# Altium schematic symbol library WR-WTB_1.25mm.SchLib: 46 symbols
Pins are listed as number, name and electrical type; pins without a type are passive.

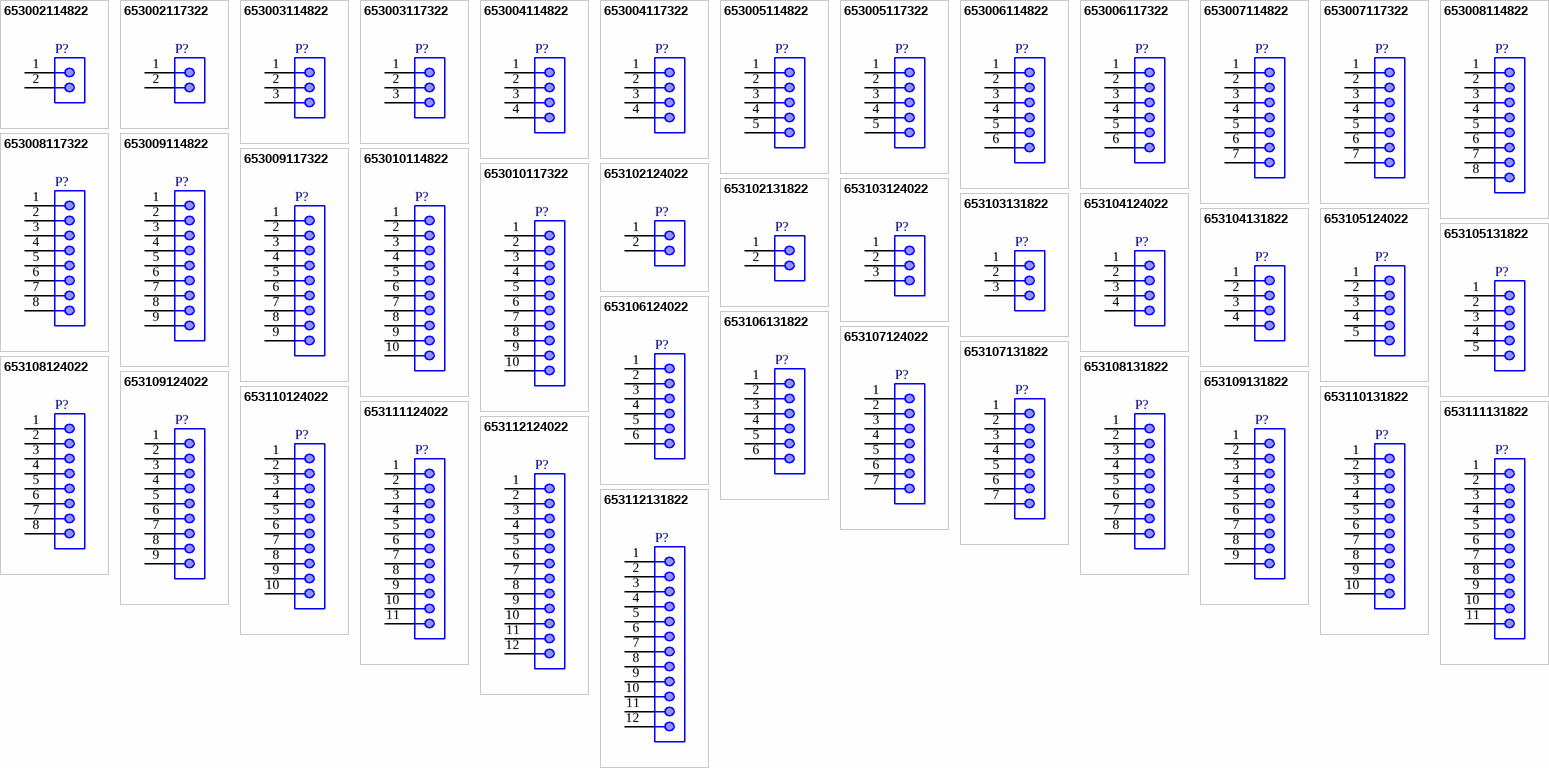
[diagram p0: symbols 653002114822 to 653112131822]

## 653002114822
designator P?
WR-WTB THT Male Vertical Shrouded Header, pitch 1.25mm, 2p; Part Number: 653002114822; Pin Number: 2; Contact Resistance: 20mOhm; Rated Current: 1A; Withstanding Voltage: 250VAC; Working Voltage: 125VAC; ComponentLink1Description: Manufacturer; ComponentLink1URL: http://www.we-online.de; ComponentLink2Description: Datasheet; ComponentLink2URL: https://www.we-online.com/catalog/datasheet/653002114822.pdf; Pitch: 1.25mm; Published Date: January 2020; Publisher: Wurth Elektronik; Mounting Technology: THT; Packaging: Bag; Operating Temperature: -40 to +85degC; Gender: Male; Type: Vertical
footprint 653002114822
pins: 1, 2

## 653002117322
designator P?
WR-WTB THT Male Horizontal Shrouded Header, pitch 1.25mm, 2p; Part Number: 653002117322; Pin Number: 2; Contact Resistance: 20mOhm; Rated Current: 1A; Withstanding Voltage: 250VAC; Working Voltage: 125VAC; ComponentLink1Description: Manufacturer; ComponentLink1URL: http://www.we-online.de; ComponentLink2Description: Datasheet; ComponentLink2URL: https://www.we-online.com/catalog/datasheet/653002117322.pdf; Pitch: 1.25mm; Published Date: January 2020; Publisher: Wurth Elektronik; Mounting Technology: THT; Packaging: Tube; Operating Temperature: -40 to +85degC; Gender: Male; Type: Horizontal
footprint 653002117322
pins: 1, 2

## 653003114822
designator P?
WR-WTB THT Male Vertical Shrouded Header, pitch 1.25mm, 3p; Part Number: 653003114822; Pin Number: 3; Contact Resistance: 20mOhm; Rated Current: 1A; Withstanding Voltage: 250VAC; Working Voltage: 125VAC; ComponentLink1Description: Manufacturer; ComponentLink1URL: http://www.we-online.de; ComponentLink2Description: Datasheet; ComponentLink2URL: https://www.we-online.com/catalog/datasheet/653003114822.pdf; Pitch: 1.25mm; Published Date: January 2020; Publisher: Wurth Elektronik; Mounting Technology: THT; Packaging: Bag; Operating Temperature: -40 to +85degC; Gender: Male; Type: Vertical
footprint 653003114822
pins: 1, 2, 3

## 653003117322
designator P?
WR-WTB THT Male Horizontal Shrouded Header, pitch 1.25mm, 3p; Part Number: 653003117322; Pin Number: 3; Contact Resistance: 20mOhm; Rated Current: 1A; Withstanding Voltage: 250VAC; Working Voltage: 125VAC; ComponentLink1Description: Manufacturer; ComponentLink1URL: http://www.we-online.de; ComponentLink2Description: Datasheet; ComponentLink2URL: https://www.we-online.com/catalog/datasheet/653003117322.pdf; Pitch: 1.25mm; Published Date: January 2020; Publisher: Wurth Elektronik; Mounting Technology: THT; Packaging: Tube; Operating Temperature: -40 to +85degC; Gender: Male; Type: Horizontal
footprint 653003117322
pins: 1, 2, 3

## 653004114822
designator P?
WR-WTB THT Male Vertical Shrouded Header, pitch 1.25mm, 4p; Part Number: 653004114822; Pin Number: 4; Contact Resistance: 20mOhm; Rated Current: 1A; Withstanding Voltage: 250VAC; Working Voltage: 125VAC; ComponentLink1Description: Manufacturer; ComponentLink1URL: http://www.we-online.de; ComponentLink2Description: Datasheet; ComponentLink2URL: https://www.we-online.com/catalog/datasheet/653004114822.pdf; Pitch: 1.25mm; Published Date: January 2020; Publisher: Wurth Elektronik; Mounting Technology: THT; Packaging: Tube; Operating Temperature: -40 to +85degC; Gender: Male; Type: Vertical
footprint 653004114822
pins: 1, 2, 3, 4

## 653004117322
designator P?
WR-WTB THT Male Horizontal Shrouded Header, pitch 1.25mm, 4p; Part Number: 653004117322; Pin Number: 4; Contact Resistance: 20mOhm; Rated Current: 1A; Withstanding Voltage: 250VAC; Working Voltage: 125VAC; ComponentLink1Description: Manufacturer; ComponentLink1URL: http://www.we-online.de; ComponentLink2Description: Datasheet; ComponentLink2URL: https://www.we-online.com/catalog/datasheet/653004117322.pdf; Pitch: 1.25mm; Published Date: January 2020; Publisher: Wurth Elektronik; Mounting Technology: THT; Packaging: Tube; Operating Temperature: -40 to +85degC; Gender: Male; Type: Horizontal
footprint 653004117322
pins: 1, 2, 3, 4

## 653005114822
designator P?
WR-WTB THT Male Vertical Shrouded Header, pitch 1.25mm, 5p; Part Number: 653005114822; Pin Number: 5; Contact Resistance: 20mOhm; Rated Current: 1A; Withstanding Voltage: 250VAC; Working Voltage: 125VAC; ComponentLink1Description: Manufacturer; ComponentLink1URL: http://www.we-online.de; ComponentLink2Description: Datasheet; ComponentLink2URL: https://www.we-online.com/catalog/datasheet/653005114822.pdf; Pitch: 1.25mm; Published Date: January 2020; Publisher: Wurth Elektronik; Mounting Technology: THT; Packaging: Tube; Operating Temperature: -40 to +85degC; Gender: Male; Type: Vertical
footprint 653005114822
pins: 1, 2, 3, 4, 5

## 653005117322
designator P?
WR-WTB THT Male Horizontal Shrouded Header, pitch 1.25mm, 5p; Part Number: 653005117322; Pin Number: 5; Contact Resistance: 20mOhm; Rated Current: 1A; Withstanding Voltage: 250VAC; Working Voltage: 125VAC; ComponentLink1Description: Manufacturer; ComponentLink1URL: http://www.we-online.de; ComponentLink2Description: Datasheet; ComponentLink2URL: https://www.we-online.com/catalog/datasheet/653005117322.pdf; Pitch: 1.25mm; Published Date: January 2020; Publisher: Wurth Elektronik; Mounting Technology: THT; Packaging: Tube; Operating Temperature: -40 to +85degC; Gender: Male; Type: Horizontal
footprint 653005117322
pins: 1, 2, 3, 4, 5

## 653006114822
designator P?
WR-WTB THT Male Vertical Shrouded Header, pitch 1.25mm, 6p; Part Number: 653006114822; Pin Number: 6; Contact Resistance: 20mOhm; Rated Current: 1A; Withstanding Voltage: 250VAC; Working Voltage: 125VAC; ComponentLink1Description: Manufacturer; ComponentLink1URL: http://www.we-online.de; ComponentLink2Description: Datasheet; ComponentLink2URL: https://www.we-online.com/catalog/datasheet/653006114822.pdf; Pitch: 1.25mm; Published Date: January 2020; Publisher: Wurth Elektronik; Mounting Technology: THT; Packaging: Tube; Operating Temperature: -40 to +85degC; Gender: Male; Type: Vertical
footprint 653006114822
pins: 1, 2, 3, 4, 5, 6

## 653006117322
designator P?
WR-WTB THT Male Horizontal Shrouded Header, pitch 1.25mm, 6p; Part Number: 653006117322; Pin Number: 6; Contact Resistance: 20mOhm; Rated Current: 1A; Withstanding Voltage: 250VAC; Working Voltage: 125VAC; ComponentLink1Description: Manufacturer; ComponentLink1URL: http://www.we-online.de; ComponentLink2Description: Datasheet; ComponentLink2URL: https://www.we-online.com/catalog/datasheet/653006117322.pdf; Pitch: 1.25mm; Published Date: January 2020; Publisher: Wurth Elektronik; Mounting Technology: THT; Packaging: Tube; Operating Temperature: -40 to +85degC; Gender: Male; Type: Horizontal
footprint 653006117322
pins: 1, 2, 3, 4, 5, 6

## 653007114822
designator P?
WR-WTB THT Male Vertical Shrouded Header, pitch 1.25mm, 7p; Part Number: 653007114822; Pin Number: 7; Contact Resistance: 20mOhm; Rated Current: 1A; Withstanding Voltage: 250VAC; Working Voltage: 125VAC; ComponentLink1Description: Manufacturer; ComponentLink1URL: http://www.we-online.de; ComponentLink2Description: Datasheet; ComponentLink2URL: https://www.we-online.com/catalog/datasheet/653007114822.pdf; Pitch: 1.25mm; Published Date: January 2020; Publisher: Wurth Elektronik; Mounting Technology: THT; Packaging: Tube; Operating Temperature: -40 to +85degC; Gender: Male; Type: Vertical
footprint 653007114822
pins: 1, 2, 3, 4, 5, 6, 7

## 653007117322
designator P?
WR-WTB THT Male Horizontal Shrouded Header, pitch 1.25mm, 7p; Part Number: 653007117322; Pin Number: 7; Contact Resistance: 20mOhm; Rated Current: 1A; Withstanding Voltage: 250VAC; Working Voltage: 125VAC; ComponentLink1Description: Manufacturer; ComponentLink1URL: http://www.we-online.de; ComponentLink2Description: Datasheet; ComponentLink2URL: https://www.we-online.com/catalog/datasheet/653007117322.pdf; Pitch: 1.25mm; Published Date: January 2020; Publisher: Wurth Elektronik; Mounting Technology: THT; Packaging: Tube; Operating Temperature: -40 to +85degC; Gender: Male; Type: Horizontal
footprint 653007117322
pins: 1, 2, 3, 4, 5, 6, 7

## 653008114822
designator P?
WR-WTB THT Male Vertical Shrouded Header, pitch 1.25mm, 8p; Part Number: 653008114822; Pin Number: 8; Contact Resistance: 20mOhm; Rated Current: 1A; Withstanding Voltage: 250VAC; Working Voltage: 125VAC; ComponentLink1Description: Manufacturer; ComponentLink1URL: http://www.we-online.de; ComponentLink2Description: Datasheet; ComponentLink2URL: https://www.we-online.com/catalog/datasheet/653008114822.pdf; Pitch: 1.25mm; Published Date: January 2020; Publisher: Wurth Elektronik; Mounting Technology: THT; Packaging: Tube; Operating Temperature: -40 to +85degC; Gender: Male; Type: Vertical
footprint 653008114822
pins: 1, 2, 3, 4, 5, 6, 7, 8

## 653008117322
designator P?
WR-WTB THT Male Horizontal Shrouded Header, pitch 1.25mm, 8p; Part Number: 653008117322; Pin Number: 8; Contact Resistance: 20mOhm; Rated Current: 1A; Withstanding Voltage: 250VAC; Working Voltage: 125VAC; ComponentLink1Description: Manufacturer; ComponentLink1URL: http://www.we-online.de; ComponentLink2Description: Datasheet; ComponentLink2URL: https://www.we-online.com/catalog/datasheet/653008117322.pdf; Pitch: 1.25mm; Published Date: January 2020; Publisher: Wurth Elektronik; Mounting Technology: THT; Packaging: Tube; Operating Temperature: -40 to +85degC; Gender: Male; Type: Horizontal
footprint 653008117322
pins: 1, 2, 3, 4, 5, 6, 7, 8

## 653009114822
designator P?
WR-WTB THT Male Vertical Shrouded Header, pitch 1.25mm, 9p; Part Number: 653009114822; Pin Number: 9; Contact Resistance: 20mOhm; Rated Current: 1A; Withstanding Voltage: 250VAC; Working Voltage: 125VAC; ComponentLink1Description: Manufacturer; ComponentLink1URL: http://www.we-online.de; ComponentLink2Description: Datasheet; ComponentLink2URL: https://www.we-online.com/catalog/datasheet/653009114822.pdf; Pitch: 1.25mm; Published Date: January 2020; Publisher: Wurth Elektronik; Mounting Technology: THT; Packaging: Tube; Operating Temperature: -40 to +85degC; Gender: Male; Type: Vertical
footprint 653009114822
pins: 1, 2, 3, 4, 5, 6, 7, 8, 9

## 653009117322
designator P?
WR-WTB THT Male Horizontal Shrouded Header, pitch 1.25mm, 9p; Part Number: 653009117322; Pin Number: 9; Contact Resistance: 20mOhm; Rated Current: 1A; Withstanding Voltage: 250VAC; Working Voltage: 125VAC; ComponentLink1Description: Manufacturer; ComponentLink1URL: http://www.we-online.de; ComponentLink2Description: Datasheet; ComponentLink2URL: https://www.we-online.com/catalog/datasheet/653009117322.pdf; Pitch: 1.25mm; Published Date: January 2020; Publisher: Wurth Elektronik; Mounting Technology: THT; Packaging: Tube; Operating Temperature: -40 to +85degC; Gender: Male; Type: Horizontal
footprint 653009117322
pins: 1, 2, 3, 4, 5, 6, 7, 8, 9

## 653010114822
designator P?
WR-WTB THT Male Vertical Shrouded Header, pitch 1.25mm, 10p; Part Number: 653010114822; Pin Number: 10; Contact Resistance: 20mOhm; Rated Current: 1A; Withstanding Voltage: 250VAC; Working Voltage: 125VAC; ComponentLink1Description: Manufacturer; ComponentLink1URL: http://www.we-online.de; ComponentLink2Description: Datasheet; ComponentLink2URL: https://www.we-online.com/catalog/datasheet/653010114822.pdf; Pitch: 1.25mm; Published Date: January 2020; Publisher: Wurth Elektronik; Mounting Technology: THT; Packaging: Tube; Operating Temperature: -40 to +85degC; Gender: Male; Type: Vertical
footprint 653010114822
pins: 1, 2, 3, 4, 5, 6, 7, 8, 9, 10

## 653010117322
designator P?
WR-WTB THT Male Horizontal Shrouded Header, pitch 1.25mm, 10p; Part Number: 653010117322; Pin Number: 10; Contact Resistance: 20mOhm; Rated Current: 1A; Withstanding Voltage: 250VAC; Working Voltage: 125VAC; ComponentLink1Description: Manufacturer; ComponentLink1URL: http://www.we-online.de; ComponentLink2Description: Datasheet; ComponentLink2URL: https://www.we-online.com/catalog/datasheet/653010117322.pdf; Pitch: 1.25mm; Published Date: January 2020; Publisher: Wurth Elektronik; Mounting Technology: THT; Packaging: Tube; Operating Temperature: -40 to +85degC; Gender: Male; Type: Horizontal
footprint 653010117322
pins: 1, 2, 3, 4, 5, 6, 7, 8, 9, 10

## 653102124022
designator P?
WR-WTB SMT Male Vertical Shrouded Header, pitch 1.25mm, 2p; Part Number: 653102124022; Pin Number: 2; Contact Resistance: 20mOhm; Rated Current: 1A; Withstanding Voltage: 250VAC; Working Voltage: 125VAC; ComponentLink1Description: Manufacturer; ComponentLink1URL: http://www.we-online.de; ComponentLink2Description: Datasheet; ComponentLink2URL: https://www.we-online.com/catalog/datasheet/653102124022.pdf; Pitch: 1.25mm; Published Date: January 2020; Publisher: Wurth Elektronik; Mounting Technology: SMT; Packaging: Tape and Reel; Operating Temperature: -40 to +85degC; Gender: Male; Type: Vertical
footprint 653102124022
pins: 1, 2

## 653102131822
designator P?
WR-WTB SMT Male Horizontal Shrouded Header, pitch 1.25mm, 2p; Part Number: 653102131822; Pin Number: 2; Contact Resistance: 20mOhm; Rated Current: 1A; Withstanding Voltage: 250VAC; Working Voltage: 125VAC; ComponentLink1Description: Manufacturer; ComponentLink1URL: http://www.we-online.de; ComponentLink2Description: Datasheet; ComponentLink2URL: https://www.we-online.com/catalog/datasheet/653102131822.pdf; Pitch: 1.25mm; Published Date: January 2020; Publisher: Wurth Elektronik; Mounting Technology: SMT; Packaging: Tape and Reel; Operating Temperature: -40 to +85degC; Gender: Male; Type: Horizontal
footprint 653102131822
pins: 1, 2

## 653103124022
designator P?
WR-WTB SMT Male Vertical Shrouded Header, pitch 1.25mm, 3p; Part Number: 653103124022; Pin Number: 3; Contact Resistance: 20mOhm; Rated Current: 1A; Withstanding Voltage: 250VAC; Working Voltage: 125VAC; ComponentLink1Description: Manufacturer; ComponentLink1URL: http://www.we-online.de; ComponentLink2Description: Datasheet; ComponentLink2URL: https://www.we-online.com/catalog/datasheet/653103124022.pdf; Pitch: 1.25mm; Published Date: January 2020; Publisher: Wurth Elektronik; Mounting Technology: SMT; Packaging: Tape and Reel; Operating Temperature: -40 to +85degC; Gender: Male; Type: Vertical
footprint 653103124022
pins: 1, 2, 3

## 653103131822
designator P?
WR-WTB SMT Male Horizontal Shrouded Header, pitch 1.25mm, 3p; Part Number: 653103131822; Pin Number: 3; Contact Resistance: 20mOhm; Rated Current: 1A; Withstanding Voltage: 250VAC; Working Voltage: 125VAC; ComponentLink1Description: Manufacturer; ComponentLink1URL: http://www.we-online.de; ComponentLink2Description: Datasheet; ComponentLink2URL: https://www.we-online.com/catalog/datasheet/653103131822.pdf; Pitch: 1.25mm; Published Date: January 2020; Publisher: Wurth Elektronik; Mounting Technology: SMT; Packaging: Tape and Reel; Operating Temperature: -40 to +85degC; Gender: Male; Type: Horizontal
footprint 653103131822
pins: 1, 2, 3

## 653104124022
designator P?
WR-WTB SMT Male Vertical Shrouded Header, pitch 1.25mm, 4p; Part Number: 653104124022; Pin Number: 4; Contact Resistance: 20mOhm; Rated Current: 1A; Withstanding Voltage: 250VAC; Working Voltage: 125VAC; ComponentLink1Description: Manufacturer; ComponentLink1URL: http://www.we-online.de; ComponentLink2Description: Datasheet; ComponentLink2URL: https://www.we-online.com/catalog/datasheet/653104124022.pdf; Pitch: 1.25mm; Published Date: January 2020; Publisher: Wurth Elektronik; Mounting Technology: SMT; Packaging: Tape and Reel; Operating Temperature: -40 to +85degC; Gender: Male; Type: Vertical
footprint 653104124022
pins: 1, 2, 3, 4

## 653104131822
designator P?
WR-WTB SMT Male Horizontal Shrouded Header, pitch 1.25mm, 4p; Part Number: 653104131822; Pin Number: 4; Contact Resistance: 20mOhm; Rated Current: 1A; Withstanding Voltage: 250VAC; Working Voltage: 125VAC; ComponentLink1Description: Manufacturer; ComponentLink1URL: http://www.we-online.de; ComponentLink2Description: Datasheet; ComponentLink2URL: https://www.we-online.com/catalog/datasheet/653104131822.pdf; Pitch: 1.25mm; Published Date: January 2020; Publisher: Wurth Elektronik; Mounting Technology: SMT; Packaging: Tape and Reel; Operating Temperature: -40 to +85degC; Gender: Male; Type: Horizontal
footprint 653104131822
pins: 1, 2, 3, 4

## 653105124022
designator P?
WR-WTB SMT Male Vertical Shrouded Header, pitch 1.25mm, 5p; Part Number: 653105124022; Pin Number: 5; Contact Resistance: 20mOhm; Rated Current: 1A; Withstanding Voltage: 250VAC; Working Voltage: 125VAC; ComponentLink1Description: Manufacturer; ComponentLink1URL: http://www.we-online.de; ComponentLink2Description: Datasheet; ComponentLink2URL: https://www.we-online.com/catalog/datasheet/653105124022.pdf; Pitch: 1.25mm; Published Date: January 2020; Publisher: Wurth Elektronik; Mounting Technology: SMT; Packaging: Tape and Reel; Operating Temperature: -40 to +85degC; Gender: Male; Type: Vertical
footprint 653105124022
pins: 1, 2, 3, 4, 5

## 653105131822
designator P?
WR-WTB SMT Male Horizontal Shrouded Header, pitch 1.25mm, 5p; Part Number: 653105131822; Pin Number: 5; Contact Resistance: 20mOhm; Rated Current: 1A; Withstanding Voltage: 250VAC; Working Voltage: 125VAC; ComponentLink1Description: Manufacturer; ComponentLink1URL: http://www.we-online.de; ComponentLink2Description: Datasheet; ComponentLink2URL: https://www.we-online.com/catalog/datasheet/653105131822.pdf; Pitch: 1.25mm; Published Date: January 2020; Publisher: Wurth Elektronik; Mounting Technology: SMT; Packaging: Tape and Reel; Operating Temperature: -40 to +85degC; Gender: Male; Type: Horizontal
footprint 653105131822
pins: 1, 2, 3, 4, 5

## 653106124022
designator P?
WR-WTB SMT Male Vertical Shrouded Header, pitch 1.25mm, 6p; Part Number: 653106124022; Pin Number: 6; Contact Resistance: 20mOhm; Rated Current: 1A; Withstanding Voltage: 250VAC; Working Voltage: 125VAC; ComponentLink1Description: Manufacturer; ComponentLink1URL: http://www.we-online.de; ComponentLink2Description: Datasheet; ComponentLink2URL: https://www.we-online.com/catalog/datasheet/653106124022.pdf; Pitch: 1.25mm; Published Date: January 2020; Publisher: Wurth Elektronik; Mounting Technology: SMT; Packaging: Tape and Reel; Operating Temperature: -40 to +85degC; Gender: Male; Type: Vertical
footprint 653106124022
pins: 1, 2, 3, 4, 5, 6

## 653106131822
designator P?
WR-WTB SMT Male Horizontal Shrouded Header, pitch 1.25mm, 6p; Part Number: 653106131822; Pin Number: 6; Contact Resistance: 20mOhm; Rated Current: 1A; Withstanding Voltage: 250VAC; Working Voltage: 125VAC; ComponentLink1Description: Manufacturer; ComponentLink1URL: http://www.we-online.de; ComponentLink2Description: Datasheet; ComponentLink2URL: https://www.we-online.com/catalog/datasheet/653106131822.pdf; Pitch: 1.25mm; Published Date: January 2020; Publisher: Wurth Elektronik; Mounting Technology: SMT; Packaging: Tape and Reel; Operating Temperature: -40 to +85degC; Gender: Male; Type: Horizontal
footprint 653106131822
pins: 1, 2, 3, 4, 5, 6

## 653107124022
designator P?
WR-WTB SMT Male Vertical Shrouded Header, pitch 1.25mm, 7p; Part Number: 653107124022; Pin Number: 7; Contact Resistance: 20mOhm; Rated Current: 1A; Withstanding Voltage: 250VAC; Working Voltage: 125VAC; ComponentLink1Description: Manufacturer; ComponentLink1URL: http://www.we-online.de; ComponentLink2Description: Datasheet; ComponentLink2URL: https://www.we-online.com/catalog/datasheet/653107124022.pdf; Pitch: 1.25mm; Published Date: January 2020; Publisher: Wurth Elektronik; Mounting Technology: SMT; Packaging: Tape and Reel; Operating Temperature: -40 to +85degC; Gender: Male; Type: Vertical
footprint 653107124022
pins: 1, 2, 3, 4, 5, 6, 7

## 653107131822
designator P?
WR-WTB SMT Male Horizontal Shrouded Header, pitch 1.25mm, 7p; Part Number: 653107131822; Pin Number: 7; Contact Resistance: 20mOhm; Rated Current: 1A; Withstanding Voltage: 250VAC; Working Voltage: 125VAC; ComponentLink1Description: Manufacturer; ComponentLink1URL: http://www.we-online.de; ComponentLink2Description: Datasheet; ComponentLink2URL: https://www.we-online.com/catalog/datasheet/653107131822.pdf; Pitch: 1.25mm; Published Date: January 2020; Publisher: Wurth Elektronik; Mounting Technology: SMT; Packaging: Tape and Reel; Operating Temperature: -40 to +85degC; Gender: Male; Type: Horizontal
footprint 653107131822
pins: 1, 2, 3, 4, 5, 6, 7

## 653108124022
designator P?
WR-WTB SMT Male Vertical Shrouded Header, pitch 1.25mm, 8p; Part Number: 653108124022; Pin Number: 8; Contact Resistance: 20mOhm; Rated Current: 1A; Withstanding Voltage: 250VAC; Working Voltage: 125VAC; ComponentLink1Description: Manufacturer; ComponentLink1URL: http://www.we-online.de; ComponentLink2Description: Datasheet; ComponentLink2URL: https://www.we-online.com/catalog/datasheet/653108124022.pdf; Pitch: 1.25mm; Published Date: January 2020; Publisher: Wurth Elektronik; Mounting Technology: SMT; Packaging: Tape and Reel; Operating Temperature: -40 to +85degC; Gender: Male; Type: Vertical
footprint 653108124022
pins: 1, 2, 3, 4, 5, 6, 7, 8

## 653108131822
designator P?
WR-WTB SMT Male Horizontal Shrouded Header, pitch 1.25mm, 8p; Part Number: 653108131822; Pin Number: 8; Contact Resistance: 20mOhm; Rated Current: 1A; Withstanding Voltage: 250VAC; Working Voltage: 125VAC; ComponentLink1Description: Manufacturer; ComponentLink1URL: http://www.we-online.de; ComponentLink2Description: Datasheet; ComponentLink2URL: https://www.we-online.com/catalog/datasheet/653108131822.pdf; Pitch: 1.25mm; Published Date: January 2020; Publisher: Wurth Elektronik; Mounting Technology: SMT; Packaging: Tape and Reel; Operating Temperature: -40 to +85degC; Gender: Male; Type: Horizontal
footprint 653108131822
pins: 1, 2, 3, 4, 5, 6, 7, 8

## 653109124022
designator P?
WR-WTB SMT Male Vertical Shrouded Header, pitch 1.25mm, 9p; Part Number: 653109124022; Pin Number: 9; Contact Resistance: 20mOhm; Rated Current: 1A; Withstanding Voltage: 250VAC; Working Voltage: 125VAC; ComponentLink1Description: Manufacturer; ComponentLink1URL: http://www.we-online.de; ComponentLink2Description: Datasheet; ComponentLink2URL: https://www.we-online.com/catalog/datasheet/653109124022.pdf; Pitch: 1.25mm; Published Date: January 2020; Publisher: Wurth Elektronik; Mounting Technology: SMT; Packaging: Tape and Reel; Operating Temperature: -40 to +85degC; Gender: Male; Type: Vertical
footprint 653109124022
pins: 1, 2, 3, 4, 5, 6, 7, 8, 9

## 653109131822
designator P?
WR-WTB SMT Male Horizontal Shrouded Header, pitch 1.25mm, 9p; Part Number: 653109131822; Pin Number: 9; Contact Resistance: 20mOhm; Rated Current: 1A; Withstanding Voltage: 250VAC; Working Voltage: 125VAC; ComponentLink1Description: Manufacturer; ComponentLink1URL: http://www.we-online.de; ComponentLink2Description: Datasheet; ComponentLink2URL: https://www.we-online.com/catalog/datasheet/653109131822.pdf; Pitch: 1.25mm; Published Date: January 2020; Publisher: Wurth Elektronik; Mounting Technology: SMT; Packaging: Tape and Reel; Operating Temperature: -40 to +85degC; Gender: Male; Type: Horizontal
footprint 653109131822
pins: 1, 2, 3, 4, 5, 6, 7, 8, 9

## 653110124022
designator P?
WR-WTB SMT Male Vertical Shrouded Header, pitch 1.25mm, 10p; Part Number: 653110124022; Pin Number: 10; Contact Resistance: 20mOhm; Rated Current: 1A; Withstanding Voltage: 250VAC; Working Voltage: 125VAC; ComponentLink1Description: Manufacturer; ComponentLink1URL: http://www.we-online.de; ComponentLink2Description: Datasheet; ComponentLink2URL: https://www.we-online.com/catalog/datasheet/653110124022.pdf; Pitch: 1.25mm; Published Date: January 2020; Publisher: Wurth Elektronik; Mounting Technology: SMT; Packaging: Tape and Reel; Operating Temperature: -40 to +85degC; Gender: Male; Type: Vertical
footprint 653110124022
pins: 1, 2, 3, 4, 5, 6, 7, 8, 9, 10

## 653110131822
designator P?
WR-WTB SMT Male Horizontal Shrouded Header, pitch 1.25mm, 10p; Part Number: 653110131822; Pin Number: 10; Contact Resistance: 20mOhm; Rated Current: 1A; Withstanding Voltage: 250VAC; Working Voltage: 125VAC; ComponentLink1Description: Manufacturer; ComponentLink1URL: http://www.we-online.de; ComponentLink2Description: Datasheet; ComponentLink2URL: https://www.we-online.com/catalog/datasheet/653110131822.pdf; Pitch: 1.25mm; Published Date: January 2020; Publisher: Wurth Elektronik; Mounting Technology: SMT; Packaging: Tape and Reel; Operating Temperature: -40 to +85degC; Gender: Male; Type: Horizontal
footprint 653110131822
pins: 1, 2, 3, 4, 5, 6, 7, 8, 9, 10

## 653111124022
designator P?
WR-WTB SMT Male Vertical Shrouded Header, pitch 1.25mm, 11p; Part Number: 653111124022; Pin Number: 11; Contact Resistance: 20mOhm; Rated Current: 1A; Withstanding Voltage: 250VAC; Working Voltage: 125VAC; ComponentLink1Description: Manufacturer; ComponentLink1URL: http://www.we-online.de; ComponentLink2Description: Datasheet; ComponentLink2URL: https://www.we-online.com/catalog/datasheet/653111124022.pdf; Pitch: 1.25mm; Published Date: January 2020; Publisher: Wurth Elektronik; Mounting Technology: SMT; Packaging: Tape and Reel; Operating Temperature: -40 to +85degC; Gender: Male; Type: Vertical
footprint 653111124022
pins: 1, 2, 3, 4, 5, 6, 7, 8, 9, 10, 11

## 653111131822
designator P?
WR-WTB SMT Male Horizontal Shrouded Header, pitch 1.25mm, 11p; Part Number: 653111131822; Pin Number: 11; Contact Resistance: 20mOhm; Rated Current: 1A; Withstanding Voltage: 250VAC; Working Voltage: 125VAC; ComponentLink1Description: Manufacturer; ComponentLink1URL: http://www.we-online.de; ComponentLink2Description: Datasheet; ComponentLink2URL: https://www.we-online.com/catalog/datasheet/653111131822.pdf; Pitch: 1.25mm; Published Date: January 2020; Publisher: Wurth Elektronik; Mounting Technology: SMT; Packaging: Tape and Reel; Operating Temperature: -40 to +85degC; Gender: Male; Type: Horizontal
footprint 653111131822
pins: 1, 2, 3, 4, 5, 6, 7, 8, 9, 10, 11

## 653112124022
designator P?
WR-WTB SMT Male Vertical Shrouded Header, pitch 1.25mm, 12p; Part Number: 653112124022; Pin Number: 12; Contact Resistance: 20mOhm; Rated Current: 1A; Withstanding Voltage: 250VAC; Working Voltage: 125VAC; ComponentLink1Description: Manufacturer; ComponentLink1URL: http://www.we-online.de; ComponentLink2Description: Datasheet; ComponentLink2URL: https://www.we-online.com/catalog/datasheet/653112124022.pdf; Pitch: 1.25mm; Published Date: January 2020; Publisher: Wurth Elektronik; Mounting Technology: SMT; Packaging: Tape and Reel; Operating Temperature: -40 to +85degC; Gender: Male; Type: Vertical
footprint 653112124022
pins: 1, 2, 3, 4, 5, 6, 7, 8, 9, 10, 11, 12

## 653112131822
designator P?
WR-WTB SMT Male Horizontal Shrouded Header, pitch 1.25mm, 12p; Part Number: 653112131822; Pin Number: 12; Contact Resistance: 20mOhm; Rated Current: 1A; Withstanding Voltage: 250VAC; Working Voltage: 125VAC; ComponentLink1Description: Manufacturer; ComponentLink1URL: http://www.we-online.de; ComponentLink2Description: Datasheet; ComponentLink2URL: https://www.we-online.com/catalog/datasheet/653112131822.pdf; Pitch: 1.25mm; Published Date: January 2020; Publisher: Wurth Elektronik; Mounting Technology: SMT; Packaging: Tape and Reel; Operating Temperature: -40 to +85degC; Gender: Male; Type: Horizontal
footprint 653112131822
pins: 1, 2, 3, 4, 5, 6, 7, 8, 9, 10, 11, 12

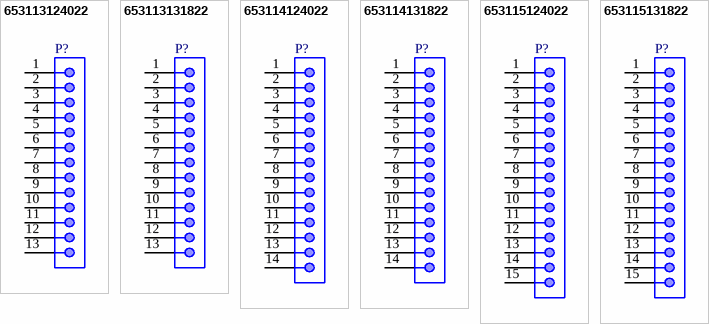
[diagram p1: symbols 653113124022 to 653115131822]

## 653113124022
designator P?
WR-WTB SMT Male Vertical Shrouded Header, pitch 1.25mm, 13p; Part Number: 653113124022; Pin Number: 13; Contact Resistance: 20mOhm; Rated Current: 1A; Withstanding Voltage: 250VAC; Working Voltage: 125VAC; ComponentLink1Description: Manufacturer; ComponentLink1URL: http://www.we-online.de; ComponentLink2Description: Datasheet; ComponentLink2URL: https://www.we-online.com/catalog/datasheet/653113124022.pdf; Pitch: 1.25mm; Published Date: January 2020; Publisher: Wurth Elektronik; Mounting Technology: SMT; Packaging: Tape and Reel; Operating Temperature: -40 to +85degC; Gender: Male; Type: Vertical
footprint 653113124022
pins: 1, 2, 3, 4, 5, 6, 7, 8, 9, 10, 11, 12, 13

## 653113131822
designator P?
WR-WTB SMT Male Horizontal Shrouded Header, pitch 1.25mm, 13p; Part Number: 653113131822; Pin Number: 13; Contact Resistance: 20mOhm; Rated Current: 1A; Withstanding Voltage: 250VAC; Working Voltage: 125VAC; ComponentLink1Description: Manufacturer; ComponentLink1URL: http://www.we-online.de; ComponentLink2Description: Datasheet; ComponentLink2URL: https://www.we-online.com/catalog/datasheet/653113131822.pdf; Pitch: 1.25mm; Published Date: January 2020; Publisher: Wurth Elektronik; Mounting Technology: SMT; Packaging: Tape and Reel; Operating Temperature: -40 to +85degC; Gender: Male; Type: Horizontal
footprint 653113131822
pins: 1, 2, 3, 4, 5, 6, 7, 8, 9, 10, 11, 12, 13

## 653114124022
designator P?
WR-WTB SMT Male Vertical Shrouded Header, pitch 1.25mm, 14p; Part Number: 653114124022; Pin Number: 14; Contact Resistance: 20mOhm; Rated Current: 1A; Withstanding Voltage: 250VAC; Working Voltage: 125VAC; ComponentLink1Description: Manufacturer; ComponentLink1URL: http://www.we-online.de; ComponentLink2Description: Datasheet; ComponentLink2URL: https://www.we-online.com/catalog/datasheet/653114124022.pdf; Pitch: 1.25mm; Published Date: January 2020; Publisher: Wurth Elektronik; Mounting Technology: SMT; Packaging: Tape and Reel; Operating Temperature: -40 to +85degC; Gender: Male; Type: Vertical
footprint 653114124022
pins: 1, 2, 3, 4, 5, 6, 7, 8, 9, 10, 11, 12, 13, 14

## 653114131822
designator P?
WR-WTB SMT Male Horizontal Shrouded Header, pitch 1.25mm, 14p; Part Number: 653114131822; Pin Number: 14; Contact Resistance: 20mOhm; Rated Current: 1A; Withstanding Voltage: 250VAC; Working Voltage: 125VAC; ComponentLink1Description: Manufacturer; ComponentLink1URL: http://www.we-online.de; ComponentLink2Description: Datasheet; ComponentLink2URL: https://www.we-online.com/catalog/datasheet/653114131822.pdf; Pitch: 1.25mm; Published Date: January 2020; Publisher: Wurth Elektronik; Mounting Technology: SMT; Packaging: Tape and Reel; Operating Temperature: -40 to +85degC; Gender: Male; Type: Horizontal
footprint 653114131822
pins: 1, 2, 3, 4, 5, 6, 7, 8, 9, 10, 11, 12, 13, 14

## 653115124022
designator P?
WR-WTB SMT Male Vertical Shrouded Header, pitch 1.25mm, 15p; Part Number: 653115124022; Pin Number: 15; Contact Resistance: 20mOhm; Rated Current: 1A; Withstanding Voltage: 250VAC; Working Voltage: 125VAC; ComponentLink1Description: Manufacturer; ComponentLink1URL: http://www.we-online.de; ComponentLink2Description: Datasheet; ComponentLink2URL: https://www.we-online.com/catalog/datasheet/653115124022.pdf; Pitch: 1.25mm; Published Date: January 2020; Publisher: Wurth Elektronik; Mounting Technology: SMT; Packaging: Tape and Reel; Operating Temperature: -40 to +85degC; Gender: Male; Type: Vertical
footprint 653115124022
pins: 1, 2, 3, 4, 5, 6, 7, 8, 9, 10, 11, 12, 13, 14, 15

## 653115131822
designator P?
WR-WTB SMT Male Horizontal Shrouded Header, pitch 1.25mm, 15p; Part Number: 653115131822; Pin Number: 15; Contact Resistance: 20mOhm; Rated Current: 1A; Withstanding Voltage: 250VAC; Working Voltage: 125VAC; ComponentLink1Description: Manufacturer; ComponentLink1URL: http://www.we-online.de; ComponentLink2Description: Datasheet; ComponentLink2URL: https://www.we-online.com/catalog/datasheet/653115131822.pdf; Pitch: 1.25mm; Published Date: January 2020; Publisher: Wurth Elektronik; Mounting Technology: SMT; Packaging: Tape and Reel; Operating Temperature: -40 to +85degC; Gender: Male; Type: Horizontal
footprint 653115131822
pins: 1, 2, 3, 4, 5, 6, 7, 8, 9, 10, 11, 12, 13, 14, 15